# Altium footprint library TerminalBlock_RND.PcbLib: 132 footprints (part 9 of 9)
Each footprint in its own frame and in the unit in brackets; x right, y up, seen from the top. Pads: shape width x height; smd on the part's side, far side on the other; paste and mask are expansions set on the pad; w line width, h text height; cw(c..) or ccw(c..) is an arc to the next point about the centre after c.
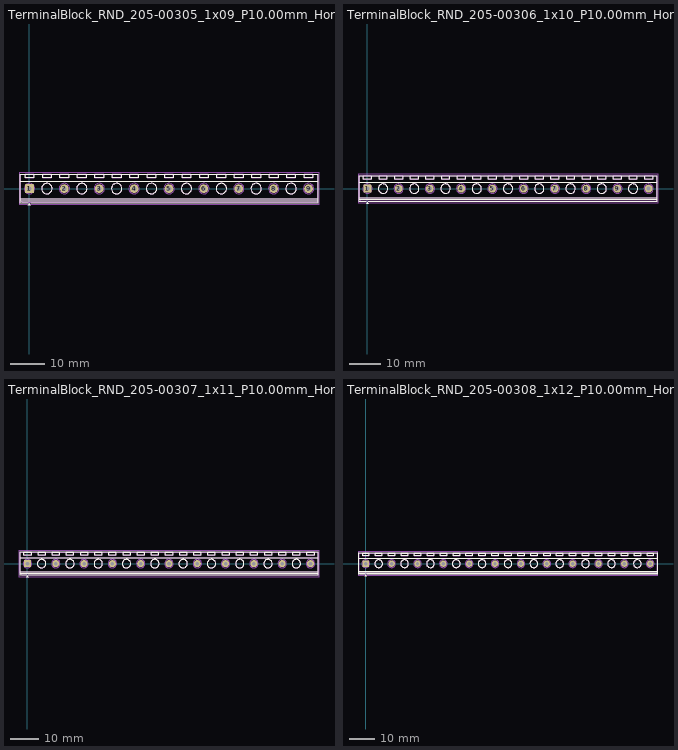
[diagram p8: the footprints below, top view; thin cyan lines are the x and y axes]

## TerminalBlock_RND_205-00305_1x09_P10.00mm_Horizontal [mm]
pads (9):
  rrect10% 2.5x2.5 hole 1.3: 1(0,0)
  round 2.5 hole 1.3: 2(10,0) 3(20,0) 4(30,0) 5(40,0) 6(50,0) 7(60,0) 8(70,0) 9(80,0)
F.SilkS:
  circle w0.254: c5,0 r1.5
  circle w0.254: c15,0 r1.5
  circle w0.254: c25,0 r1.5
  circle w0.254: c35,0 r1.5
  circle w0.254: c45,0 r1.5
  circle w0.254: c55,0 r1.5
  circle w0.254: c65,0 r1.5
  circle w0.254: c75,0 r1.5
  region: 0.44,-4.78 -0.44,-4.78 0,-4.17
  lines w0.254: -2.62,-3.45 82.62,-3.45 ; -2.62,-2.85 82.62,-2.85 ; -2.62,2.05 82.62,2.05 ; -0.3,-4.17 -2.62,-4.17 -2.62,4.17 82.62,4.17 82.62,-4.17 0.3,-4.17 ; -1.25,3.05 -1.25,4.05 1.25,4.05 1.25,3.05 -1.25,3.05 ; 3.75,3.05 3.75,4.05 6.25,4.05 6.25,3.05 3.75,3.05 ; 8.75,3.05 8.75,4.05 11.25,4.05 11.25,3.05 8.75,3.05 ; 13.75,3.05 13.75,4.05 16.25,4.05 16.25,3.05 13.75,3.05 ; 18.75,3.05 18.75,4.05 21.25,4.05 21.25,3.05 18.75,3.05 ; 23.75,3.05 23.75,4.05 26.25,4.05 26.25,3.05 23.75,3.05 ; 28.75,3.05 28.75,4.05 31.25,4.05 31.25,3.05 28.75,3.05 ; 33.75,3.05 33.75,4.05 36.25,4.05 36.25,3.05 33.75,3.05 ; 38.75,3.05 38.75,4.05 41.25,4.05 41.25,3.05 38.75,3.05 ; 43.75,3.05 43.75,4.05 46.25,4.05 46.25,3.05 43.75,3.05 ; 48.75,3.05 48.75,4.05 51.25,4.05 51.25,3.05 48.75,3.05 ; 53.75,3.05 53.75,4.05 56.25,4.05 56.25,3.05 53.75,3.05 ; 58.75,3.05 58.75,4.05 61.25,4.05 61.25,3.05 58.75,3.05 ; 63.75,3.05 63.75,4.05 66.25,4.05 66.25,3.05 63.75,3.05 ; 68.75,3.05 68.75,4.05 71.25,4.05 71.25,3.05 68.75,3.05 ; 73.75,3.05 73.75,4.05 76.25,4.05 76.25,3.05 73.75,3.05 ; 78.75,3.05 78.75,4.05 81.25,4.05 81.25,3.05 78.75,3.05
F.Fab:
  circle w0.254: c0,0 r1.5
  circle w0.254: c5,0 r1.5
  circle w0.254: c10,0 r1.5
  circle w0.254: c15,0 r1.5
  circle w0.254: c20,0 r1.5
  circle w0.254: c25,0 r1.5
  circle w0.254: c30,0 r1.5
  circle w0.254: c35,0 r1.5
  circle w0.254: c40,0 r1.5
  circle w0.254: c45,0 r1.5
  circle w0.254: c50,0 r1.5
  circle w0.254: c55,0 r1.5
  circle w0.254: c60,0 r1.5
  circle w0.254: c65,0 r1.5
  circle w0.254: c70,0 r1.5
  circle w0.254: c75,0 r1.5
  circle w0.254: c80,0 r1.5
  lines w0.254: -2.5,-2.85 82.5,-2.85 ; -2.5,2.05 82.5,2.05 ; -1.138,-0.955 0.955,1.138 ; -0.955,-1.138 1.138,0.955 ; 8.862,-0.955 10.955,1.138 ; 9.045,-1.138 11.138,0.955 ; 18.862,-0.955 20.955,1.138 ; 19.045,-1.138 21.138,0.955 ; 28.862,-0.955 30.955,1.138 ; 29.045,-1.138 31.138,0.955 ; 38.862,-0.955 40.955,1.138 ; 39.045,-1.138 41.138,0.955 ; 48.862,-0.955 50.955,1.138 ; 49.045,-1.138 51.138,0.955 ; 58.862,-0.955 60.955,1.138 ; 59.045,-1.138 61.138,0.955 ; 68.862,-0.955 70.955,1.138 ; 69.045,-1.138 71.138,0.955 ; 78.862,-0.955 80.955,1.138 ; 79.045,-1.138 81.138,0.955 ; 82.5,-3.45 -2.5,-3.45 ; -2.5,-3.45 -2.5,4.05 82.5,4.05 82.5,-4.05 -1.9,-4.05 -2.5,-3.45 ; -1.25,3.05 -1.25,4.05 1.25,4.05 1.25,3.05 -1.25,3.05 ; 3.75,3.05 3.75,4.05 6.25,4.05 6.25,3.05 3.75,3.05 ; 8.75,3.05 8.75,4.05 11.25,4.05 11.25,3.05 8.75,3.05 ; 13.75,3.05 13.75,4.05 16.25,4.05 16.25,3.05 13.75,3.05 ; 18.75,3.05 18.75,4.05 21.25,4.05 21.25,3.05 18.75,3.05 ; 23.75,3.05 23.75,4.05 26.25,4.05 26.25,3.05 23.75,3.05 ; 28.75,3.05 28.75,4.05 31.25,4.05 31.25,3.05 28.75,3.05 ; 33.75,3.05 33.75,4.05 36.25,4.05 36.25,3.05 33.75,3.05 ; 38.75,3.05 38.75,4.05 41.25,4.05 41.25,3.05 38.75,3.05 ; 43.75,3.05 43.75,4.05 46.25,4.05 46.25,3.05 43.75,3.05 ; 48.75,3.05 48.75,4.05 51.25,4.05 51.25,3.05 48.75,3.05 ; 53.75,3.05 53.75,4.05 56.25,4.05 56.25,3.05 53.75,3.05 ; 58.75,3.05 58.75,4.05 61.25,4.05 61.25,3.05 58.75,3.05 ; 63.75,3.05 63.75,4.05 66.25,4.05 66.25,3.05 63.75,3.05 ; 68.75,3.05 68.75,4.05 71.25,4.05 71.25,3.05 68.75,3.05 ; 73.75,3.05 73.75,4.05 76.25,4.05 76.25,3.05 73.75,3.05 ; 78.75,3.05 78.75,4.05 81.25,4.05 81.25,3.05 78.75,3.05
  text "'.Designator'" at 35.953,4.33 h1
F.CrtYd:
  lines w0.254: -3,-4.55 -3,4.55 83,4.55 83,-4.55 -3,-4.55

## TerminalBlock_RND_205-00306_1x10_P10.00mm_Horizontal [mm]
pads (10):
  rrect10% 2.5x2.5 hole 1.3: 1(0,0)
  round 2.5 hole 1.3: 2(10,0) 3(20,0) 4(30,0) 5(40,0) 6(50,0) 7(60,0) 8(70,0) 9(80,0) 10(90,0)
F.SilkS:
  circle w0.254: c5,0 r1.5
  circle w0.254: c15,0 r1.5
  circle w0.254: c25,0 r1.5
  circle w0.254: c35,0 r1.5
  circle w0.254: c45,0 r1.5
  circle w0.254: c55,0 r1.5
  circle w0.254: c65,0 r1.5
  circle w0.254: c75,0 r1.5
  circle w0.254: c85,0 r1.5
  region: 0.44,-4.78 -0.44,-4.78 0,-4.17
  lines w0.254: -2.62,-3.45 92.62,-3.45 ; -2.62,-2.85 92.62,-2.85 ; -2.62,2.05 92.62,2.05 ; -0.3,-4.17 -2.62,-4.17 -2.62,4.17 92.62,4.17 92.62,-4.17 0.3,-4.17 ; -1.25,3.05 -1.25,4.05 1.25,4.05 1.25,3.05 -1.25,3.05 ; 3.75,3.05 3.75,4.05 6.25,4.05 6.25,3.05 3.75,3.05 ; 8.75,3.05 8.75,4.05 11.25,4.05 11.25,3.05 8.75,3.05 ; 13.75,3.05 13.75,4.05 16.25,4.05 16.25,3.05 13.75,3.05 ; 18.75,3.05 18.75,4.05 21.25,4.05 21.25,3.05 18.75,3.05 ; 23.75,3.05 23.75,4.05 26.25,4.05 26.25,3.05 23.75,3.05 ; 28.75,3.05 28.75,4.05 31.25,4.05 31.25,3.05 28.75,3.05 ; 33.75,3.05 33.75,4.05 36.25,4.05 36.25,3.05 33.75,3.05 ; 38.75,3.05 38.75,4.05 41.25,4.05 41.25,3.05 38.75,3.05 ; 43.75,3.05 43.75,4.05 46.25,4.05 46.25,3.05 43.75,3.05 ; 48.75,3.05 48.75,4.05 51.25,4.05 51.25,3.05 48.75,3.05 ; 53.75,3.05 53.75,4.05 56.25,4.05 56.25,3.05 53.75,3.05 ; 58.75,3.05 58.75,4.05 61.25,4.05 61.25,3.05 58.75,3.05 ; 63.75,3.05 63.75,4.05 66.25,4.05 66.25,3.05 63.75,3.05 ; 68.75,3.05 68.75,4.05 71.25,4.05 71.25,3.05 68.75,3.05 ; 73.75,3.05 73.75,4.05 76.25,4.05 76.25,3.05 73.75,3.05 ; 78.75,3.05 78.75,4.05 81.25,4.05 81.25,3.05 78.75,3.05 ; 83.75,3.05 83.75,4.05 86.25,4.05 86.25,3.05 83.75,3.05 ; 88.75,3.05 88.75,4.05 91.25,4.05 91.25,3.05 88.75,3.05
F.Fab:
  circle w0.254: c0,0 r1.5
  circle w0.254: c5,0 r1.5
  circle w0.254: c10,0 r1.5
  circle w0.254: c15,0 r1.5
  circle w0.254: c20,0 r1.5
  circle w0.254: c25,0 r1.5
  circle w0.254: c30,0 r1.5
  circle w0.254: c35,0 r1.5
  circle w0.254: c40,0 r1.5
  circle w0.254: c45,0 r1.5
  circle w0.254: c50,0 r1.5
  circle w0.254: c55,0 r1.5
  circle w0.254: c60,0 r1.5
  circle w0.254: c65,0 r1.5
  circle w0.254: c70,0 r1.5
  circle w0.254: c75,0 r1.5
  circle w0.254: c80,0 r1.5
  circle w0.254: c85,0 r1.5
  circle w0.254: c90,0 r1.5
  lines w0.254: -2.5,-2.85 92.5,-2.85 ; -2.5,2.05 92.5,2.05 ; -1.138,-0.955 0.955,1.138 ; -0.955,-1.138 1.138,0.955 ; 8.862,-0.955 10.955,1.138 ; 9.045,-1.138 11.138,0.955 ; 18.862,-0.955 20.955,1.138 ; 19.045,-1.138 21.138,0.955 ; 28.862,-0.955 30.955,1.138 ; 29.045,-1.138 31.138,0.955 ; 38.862,-0.955 40.955,1.138 ; 39.045,-1.138 41.138,0.955 ; 48.862,-0.955 50.955,1.138 ; 49.045,-1.138 51.138,0.955 ; 58.862,-0.955 60.955,1.138 ; 59.045,-1.138 61.138,0.955 ; 68.862,-0.955 70.955,1.138 ; 69.045,-1.138 71.138,0.955 ; 78.862,-0.955 80.955,1.138 ; 79.045,-1.138 81.138,0.955 ; 88.862,-0.955 90.955,1.138 ; 89.045,-1.138 91.138,0.955 ; 92.5,-3.45 -2.5,-3.45 ; -2.5,-3.45 -2.5,4.05 92.5,4.05 92.5,-4.05 -1.9,-4.05 -2.5,-3.45 ; -1.25,3.05 -1.25,4.05 1.25,4.05 1.25,3.05 -1.25,3.05 ; 3.75,3.05 3.75,4.05 6.25,4.05 6.25,3.05 3.75,3.05 ; 8.75,3.05 8.75,4.05 11.25,4.05 11.25,3.05 8.75,3.05 ; 13.75,3.05 13.75,4.05 16.25,4.05 16.25,3.05 13.75,3.05 ; 18.75,3.05 18.75,4.05 21.25,4.05 21.25,3.05 18.75,3.05 ; 23.75,3.05 23.75,4.05 26.25,4.05 26.25,3.05 23.75,3.05 ; 28.75,3.05 28.75,4.05 31.25,4.05 31.25,3.05 28.75,3.05 ; 33.75,3.05 33.75,4.05 36.25,4.05 36.25,3.05 33.75,3.05 ; 38.75,3.05 38.75,4.05 41.25,4.05 41.25,3.05 38.75,3.05 ; 43.75,3.05 43.75,4.05 46.25,4.05 46.25,3.05 43.75,3.05 ; 48.75,3.05 48.75,4.05 51.25,4.05 51.25,3.05 48.75,3.05 ; 53.75,3.05 53.75,4.05 56.25,4.05 56.25,3.05 53.75,3.05 ; 58.75,3.05 58.75,4.05 61.25,4.05 61.25,3.05 58.75,3.05 ; 63.75,3.05 63.75,4.05 66.25,4.05 66.25,3.05 63.75,3.05 ; 68.75,3.05 68.75,4.05 71.25,4.05 71.25,3.05 68.75,3.05 ; 73.75,3.05 73.75,4.05 76.25,4.05 76.25,3.05 73.75,3.05 ; 78.75,3.05 78.75,4.05 81.25,4.05 81.25,3.05 78.75,3.05 ; 83.75,3.05 83.75,4.05 86.25,4.05 86.25,3.05 83.75,3.05 ; 88.75,3.05 88.75,4.05 91.25,4.05 91.25,3.05 88.75,3.05
  text "'.Designator'" at 40.953,4.33 h1
F.CrtYd:
  lines w0.254: -3,-4.55 -3,4.55 93,4.55 93,-4.55 -3,-4.55

## TerminalBlock_RND_205-00307_1x11_P10.00mm_Horizontal [mm]
pads (11):
  rrect10% 2.5x2.5 hole 1.3: 1(0,0)
  round 2.5 hole 1.3: 2(10,0) 3(20,0) 4(30,0) 5(40,0) 6(50,0) 7(60,0) 8(70,0) 9(80,0) 10(90,0) 11(100,0)
F.SilkS:
  circle w0.254: c5,0 r1.5
  circle w0.254: c15,0 r1.5
  circle w0.254: c25,0 r1.5
  circle w0.254: c35,0 r1.5
  circle w0.254: c45,0 r1.5
  circle w0.254: c55,0 r1.5
  circle w0.254: c65,0 r1.5
  circle w0.254: c75,0 r1.5
  circle w0.254: c85,0 r1.5
  circle w0.254: c95,0 r1.5
  region: 0.44,-4.78 -0.44,-4.78 0,-4.17
  lines w0.254: -2.62,-3.45 102.62,-3.45 ; -2.62,-2.85 102.62,-2.85 ; -2.62,2.05 102.62,2.05 ; -0.3,-4.17 -2.62,-4.17 -2.62,4.17 102.62,4.17 102.62,-4.17 0.3,-4.17 ; -1.25,3.05 -1.25,4.05 1.25,4.05 1.25,3.05 -1.25,3.05 ; 3.75,3.05 3.75,4.05 6.25,4.05 6.25,3.05 3.75,3.05 ; 8.75,3.05 8.75,4.05 11.25,4.05 11.25,3.05 8.75,3.05 ; 13.75,3.05 13.75,4.05 16.25,4.05 16.25,3.05 13.75,3.05 ; 18.75,3.05 18.75,4.05 21.25,4.05 21.25,3.05 18.75,3.05 ; 23.75,3.05 23.75,4.05 26.25,4.05 26.25,3.05 23.75,3.05 ; 28.75,3.05 28.75,4.05 31.25,4.05 31.25,3.05 28.75,3.05 ; 33.75,3.05 33.75,4.05 36.25,4.05 36.25,3.05 33.75,3.05 ; 38.75,3.05 38.75,4.05 41.25,4.05 41.25,3.05 38.75,3.05 ; 43.75,3.05 43.75,4.05 46.25,4.05 46.25,3.05 43.75,3.05 ; 48.75,3.05 48.75,4.05 51.25,4.05 51.25,3.05 48.75,3.05 ; 53.75,3.05 53.75,4.05 56.25,4.05 56.25,3.05 53.75,3.05 ; 58.75,3.05 58.75,4.05 61.25,4.05 61.25,3.05 58.75,3.05 ; 63.75,3.05 63.75,4.05 66.25,4.05 66.25,3.05 63.75,3.05 ; 68.75,3.05 68.75,4.05 71.25,4.05 71.25,3.05 68.75,3.05 ; 73.75,3.05 73.75,4.05 76.25,4.05 76.25,3.05 73.75,3.05 ; 78.75,3.05 78.75,4.05 81.25,4.05 81.25,3.05 78.75,3.05 ; 83.75,3.05 83.75,4.05 86.25,4.05 86.25,3.05 83.75,3.05 ; 88.75,3.05 88.75,4.05 91.25,4.05 91.25,3.05 88.75,3.05 ; 93.75,3.05 93.75,4.05 96.25,4.05 96.25,3.05 93.75,3.05 ; 98.75,3.05 98.75,4.05 101.25,4.05 101.25,3.05 98.75,3.05
F.Fab:
  circle w0.254: c0,0 r1.5
  circle w0.254: c5,0 r1.5
  circle w0.254: c10,0 r1.5
  circle w0.254: c15,0 r1.5
  circle w0.254: c20,0 r1.5
  circle w0.254: c25,0 r1.5
  circle w0.254: c30,0 r1.5
  circle w0.254: c35,0 r1.5
  circle w0.254: c40,0 r1.5
  circle w0.254: c45,0 r1.5
  circle w0.254: c50,0 r1.5
  circle w0.254: c55,0 r1.5
  circle w0.254: c60,0 r1.5
  circle w0.254: c65,0 r1.5
  circle w0.254: c70,0 r1.5
  circle w0.254: c75,0 r1.5
  circle w0.254: c80,0 r1.5
  circle w0.254: c85,0 r1.5
  circle w0.254: c90,0 r1.5
  circle w0.254: c95,0 r1.5
  circle w0.254: c100,0 r1.5
  lines w0.254: -2.5,-2.85 102.5,-2.85 ; -2.5,2.05 102.5,2.05 ; -1.138,-0.955 0.955,1.138 ; -0.955,-1.138 1.138,0.955 ; 8.862,-0.955 10.955,1.138 ; 9.045,-1.138 11.138,0.955 ; 18.862,-0.955 20.955,1.138 ; 19.045,-1.138 21.138,0.955 ; 28.862,-0.955 30.955,1.138 ; 29.045,-1.138 31.138,0.955 ; 38.862,-0.955 40.955,1.138 ; 39.045,-1.138 41.138,0.955 ; 48.862,-0.955 50.955,1.138 ; 49.045,-1.138 51.138,0.955 ; 58.862,-0.955 60.955,1.138 ; 59.045,-1.138 61.138,0.955 ; 68.862,-0.955 70.955,1.138 ; 69.045,-1.138 71.138,0.955 ; 78.862,-0.955 80.955,1.138 ; 79.045,-1.138 81.138,0.955 ; 88.862,-0.955 90.955,1.138 ; 89.045,-1.138 91.138,0.955 ; 98.862,-0.955 100.955,1.138 ; 99.045,-1.138 101.138,0.955 ; 102.5,-3.45 -2.5,-3.45 ; -2.5,-3.45 -2.5,4.05 102.5,4.05 102.5,-4.05 -1.9,-4.05 -2.5,-3.45 ; -1.25,3.05 -1.25,4.05 1.25,4.05 1.25,3.05 -1.25,3.05 ; 3.75,3.05 3.75,4.05 6.25,4.05 6.25,3.05 3.75,3.05 ; 8.75,3.05 8.75,4.05 11.25,4.05 11.25,3.05 8.75,3.05 ; 13.75,3.05 13.75,4.05 16.25,4.05 16.25,3.05 13.75,3.05 ; 18.75,3.05 18.75,4.05 21.25,4.05 21.25,3.05 18.75,3.05 ; 23.75,3.05 23.75,4.05 26.25,4.05 26.25,3.05 23.75,3.05 ; 28.75,3.05 28.75,4.05 31.25,4.05 31.25,3.05 28.75,3.05 ; 33.75,3.05 33.75,4.05 36.25,4.05 36.25,3.05 33.75,3.05 ; 38.75,3.05 38.75,4.05 41.25,4.05 41.25,3.05 38.75,3.05 ; 43.75,3.05 43.75,4.05 46.25,4.05 46.25,3.05 43.75,3.05 ; 48.75,3.05 48.75,4.05 51.25,4.05 51.25,3.05 48.75,3.05 ; 53.75,3.05 53.75,4.05 56.25,4.05 56.25,3.05 53.75,3.05 ; 58.75,3.05 58.75,4.05 61.25,4.05 61.25,3.05 58.75,3.05 ; 63.75,3.05 63.75,4.05 66.25,4.05 66.25,3.05 63.75,3.05 ; 68.75,3.05 68.75,4.05 71.25,4.05 71.25,3.05 68.75,3.05 ; 73.75,3.05 73.75,4.05 76.25,4.05 76.25,3.05 73.75,3.05 ; 78.75,3.05 78.75,4.05 81.25,4.05 81.25,3.05 78.75,3.05 ; 83.75,3.05 83.75,4.05 86.25,4.05 86.25,3.05 83.75,3.05 ; 88.75,3.05 88.75,4.05 91.25,4.05 91.25,3.05 88.75,3.05 ; 93.75,3.05 93.75,4.05 96.25,4.05 96.25,3.05 93.75,3.05 ; 98.75,3.05 98.75,4.05 101.25,4.05 101.25,3.05 98.75,3.05
  text "'.Designator'" at 45.953,4.33 h1
F.CrtYd:
  lines w0.254: -3,-4.55 -3,4.55 103,4.55 103,-4.55 -3,-4.55

## TerminalBlock_RND_205-00308_1x12_P10.00mm_Horizontal [mm]
pads (12):
  rrect10% 2.5x2.5 hole 1.3: 1(0,0)
  round 2.5 hole 1.3: 2(10,0) 3(20,0) 4(30,0) 5(40,0) 6(50,0) 7(60,0) 8(70,0) 9(80,0) 10(90,0) 11(100,0) 12(110,0)
F.SilkS:
  circle w0.254: c5,0 r1.5
  circle w0.254: c15,0 r1.5
  circle w0.254: c25,0 r1.5
  circle w0.254: c35,0 r1.5
  circle w0.254: c45,0 r1.5
  circle w0.254: c55,0 r1.5
  circle w0.254: c65,0 r1.5
  circle w0.254: c75,0 r1.5
  circle w0.254: c85,0 r1.5
  circle w0.254: c95,0 r1.5
  circle w0.254: c105,0 r1.5
  region: 0.44,-4.78 -0.44,-4.78 0,-4.17
  lines w0.254: -2.62,-3.45 112.62,-3.45 ; -2.62,-2.85 112.62,-2.85 ; -2.62,2.05 112.62,2.05 ; -0.3,-4.17 -2.62,-4.17 -2.62,4.17 112.62,4.17 112.62,-4.17 0.3,-4.17 ; -1.25,3.05 -1.25,4.05 1.25,4.05 1.25,3.05 -1.25,3.05 ; 3.75,3.05 3.75,4.05 6.25,4.05 6.25,3.05 3.75,3.05 ; 8.75,3.05 8.75,4.05 11.25,4.05 11.25,3.05 8.75,3.05 ; 13.75,3.05 13.75,4.05 16.25,4.05 16.25,3.05 13.75,3.05 ; 18.75,3.05 18.75,4.05 21.25,4.05 21.25,3.05 18.75,3.05 ; 23.75,3.05 23.75,4.05 26.25,4.05 26.25,3.05 23.75,3.05 ; 28.75,3.05 28.75,4.05 31.25,4.05 31.25,3.05 28.75,3.05 ; 33.75,3.05 33.75,4.05 36.25,4.05 36.25,3.05 33.75,3.05 ; 38.75,3.05 38.75,4.05 41.25,4.05 41.25,3.05 38.75,3.05 ; 43.75,3.05 43.75,4.05 46.25,4.05 46.25,3.05 43.75,3.05 ; 48.75,3.05 48.75,4.05 51.25,4.05 51.25,3.05 48.75,3.05 ; 53.75,3.05 53.75,4.05 56.25,4.05 56.25,3.05 53.75,3.05 ; 58.75,3.05 58.75,4.05 61.25,4.05 61.25,3.05 58.75,3.05 ; 63.75,3.05 63.75,4.05 66.25,4.05 66.25,3.05 63.75,3.05 ; 68.75,3.05 68.75,4.05 71.25,4.05 71.25,3.05 68.75,3.05 ; 73.75,3.05 73.75,4.05 76.25,4.05 76.25,3.05 73.75,3.05 ; 78.75,3.05 78.75,4.05 81.25,4.05 81.25,3.05 78.75,3.05 ; 83.75,3.05 83.75,4.05 86.25,4.05 86.25,3.05 83.75,3.05 ; 88.75,3.05 88.75,4.05 91.25,4.05 91.25,3.05 88.75,3.05 ; 93.75,3.05 93.75,4.05 96.25,4.05 96.25,3.05 93.75,3.05 ; 98.75,3.05 98.75,4.05 101.25,4.05 101.25,3.05 98.75,3.05 ; 103.75,3.05 103.75,4.05 106.25,4.05 106.25,3.05 103.75,3.05 ; 108.75,3.05 108.75,4.05 111.25,4.05 111.25,3.05 108.75,3.05
F.Fab:
  circle w0.254: c0,0 r1.5
  circle w0.254: c5,0 r1.5
  circle w0.254: c10,0 r1.5
  circle w0.254: c15,0 r1.5
  circle w0.254: c20,0 r1.5
  circle w0.254: c25,0 r1.5
  circle w0.254: c30,0 r1.5
  circle w0.254: c35,0 r1.5
  circle w0.254: c40,0 r1.5
  circle w0.254: c45,0 r1.5
  circle w0.254: c50,0 r1.5
  circle w0.254: c55,0 r1.5
  circle w0.254: c60,0 r1.5
  circle w0.254: c65,0 r1.5
  circle w0.254: c70,0 r1.5
  circle w0.254: c75,0 r1.5
  circle w0.254: c80,0 r1.5
  circle w0.254: c85,0 r1.5
  circle w0.254: c90,0 r1.5
  circle w0.254: c95,0 r1.5
  circle w0.254: c100,0 r1.5
  circle w0.254: c105,0 r1.5
  circle w0.254: c110,0 r1.5
  lines w0.254: -2.5,-2.85 112.5,-2.85 ; -2.5,2.05 112.5,2.05 ; -1.138,-0.955 0.955,1.138 ; -0.955,-1.138 1.138,0.955 ; 8.862,-0.955 10.955,1.138 ; 9.045,-1.138 11.138,0.955 ; 18.862,-0.955 20.955,1.138 ; 19.045,-1.138 21.138,0.955 ; 28.862,-0.955 30.955,1.138 ; 29.045,-1.138 31.138,0.955 ; 38.862,-0.955 40.955,1.138 ; 39.045,-1.138 41.138,0.955 ; 48.862,-0.955 50.955,1.138 ; 49.045,-1.138 51.138,0.955 ; 58.862,-0.955 60.955,1.138 ; 59.045,-1.138 61.138,0.955 ; 68.862,-0.955 70.955,1.138 ; 69.045,-1.138 71.138,0.955 ; 78.862,-0.955 80.955,1.138 ; 79.045,-1.138 81.138,0.955 ; 88.862,-0.955 90.955,1.138 ; 89.045,-1.138 91.138,0.955 ; 98.862,-0.955 100.955,1.138 ; 99.045,-1.138 101.138,0.955 ; 108.862,-0.955 110.955,1.138 ; 109.045,-1.138 111.138,0.955 ; 112.5,-3.45 -2.5,-3.45 ; -2.5,-3.45 -2.5,4.05 112.5,4.05 112.5,-4.05 -1.9,-4.05 -2.5,-3.45 ; -1.25,3.05 -1.25,4.05 1.25,4.05 1.25,3.05 -1.25,3.05 ; 3.75,3.05 3.75,4.05 6.25,4.05 6.25,3.05 3.75,3.05 ; 8.75,3.05 8.75,4.05 11.25,4.05 11.25,3.05 8.75,3.05 ; 13.75,3.05 13.75,4.05 16.25,4.05 16.25,3.05 13.75,3.05 ; 18.75,3.05 18.75,4.05 21.25,4.05 21.25,3.05 18.75,3.05 ; 23.75,3.05 23.75,4.05 26.25,4.05 26.25,3.05 23.75,3.05 ; 28.75,3.05 28.75,4.05 31.25,4.05 31.25,3.05 28.75,3.05 ; 33.75,3.05 33.75,4.05 36.25,4.05 36.25,3.05 33.75,3.05 ; 38.75,3.05 38.75,4.05 41.25,4.05 41.25,3.05 38.75,3.05 ; 43.75,3.05 43.75,4.05 46.25,4.05 46.25,3.05 43.75,3.05 ; 48.75,3.05 48.75,4.05 51.25,4.05 51.25,3.05 48.75,3.05 ; 53.75,3.05 53.75,4.05 56.25,4.05 56.25,3.05 53.75,3.05 ; 58.75,3.05 58.75,4.05 61.25,4.05 61.25,3.05 58.75,3.05 ; 63.75,3.05 63.75,4.05 66.25,4.05 66.25,3.05 63.75,3.05 ; 68.75,3.05 68.75,4.05 71.25,4.05 71.25,3.05 68.75,3.05 ; 73.75,3.05 73.75,4.05 76.25,4.05 76.25,3.05 73.75,3.05 ; 78.75,3.05 78.75,4.05 81.25,4.05 81.25,3.05 78.75,3.05 ; 83.75,3.05 83.75,4.05 86.25,4.05 86.25,3.05 83.75,3.05 ; 88.75,3.05 88.75,4.05 91.25,4.05 91.25,3.05 88.75,3.05 ; 93.75,3.05 93.75,4.05 96.25,4.05 96.25,3.05 93.75,3.05 ; 98.75,3.05 98.75,4.05 101.25,4.05 101.25,3.05 98.75,3.05 ; 103.75,3.05 103.75,4.05 106.25,4.05 106.25,3.05 103.75,3.05 ; 108.75,3.05 108.75,4.05 111.25,4.05 111.25,3.05 108.75,3.05
  text "'.Designator'" at 50.953,4.33 h1
F.CrtYd:
  lines w0.254: -3,-4.55 -3,4.55 113,4.55 113,-4.55 -3,-4.55